# EAGLE library part CONN_10 (library dawidkulpa_con)
1x10 connector
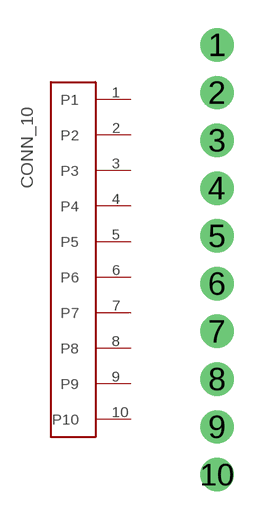
[diagram p9: symbol with the pads of GP_10M; footprint GP_10M]

Designator prefix -

## CONN_10  [GP_10M]
1  P1
2  P2
3  P3
4  P4
5  P5
6  P6
7  P7
8  P8
9  P9
10  P10

## Footprint GP_10M (pad centres in mm)
drill 1 pad 1.778: 1 0,11.43; 2 0,8.89; 3 0,6.35; 4 0,3.81; 5 0,1.27; 6 0,-1.27; 7 0,-3.81; 8 0,-6.35; 9 0,-8.89; 10 0,-11.43